# Altium footprint library Leaded Chip Carrier (Square) - Centre Index.PcbLib: 48 footprints (part 2 of 3)
Each footprint in its own frame and in the unit in brackets; x right, y up, seen from the top. Pads: shape width x height; smd on the part's side, far side on the other; paste and mask are expansions set on the pad; w line width, h text height; cw(c..) or ccw(c..) is an arc to the next point about the centre after c.
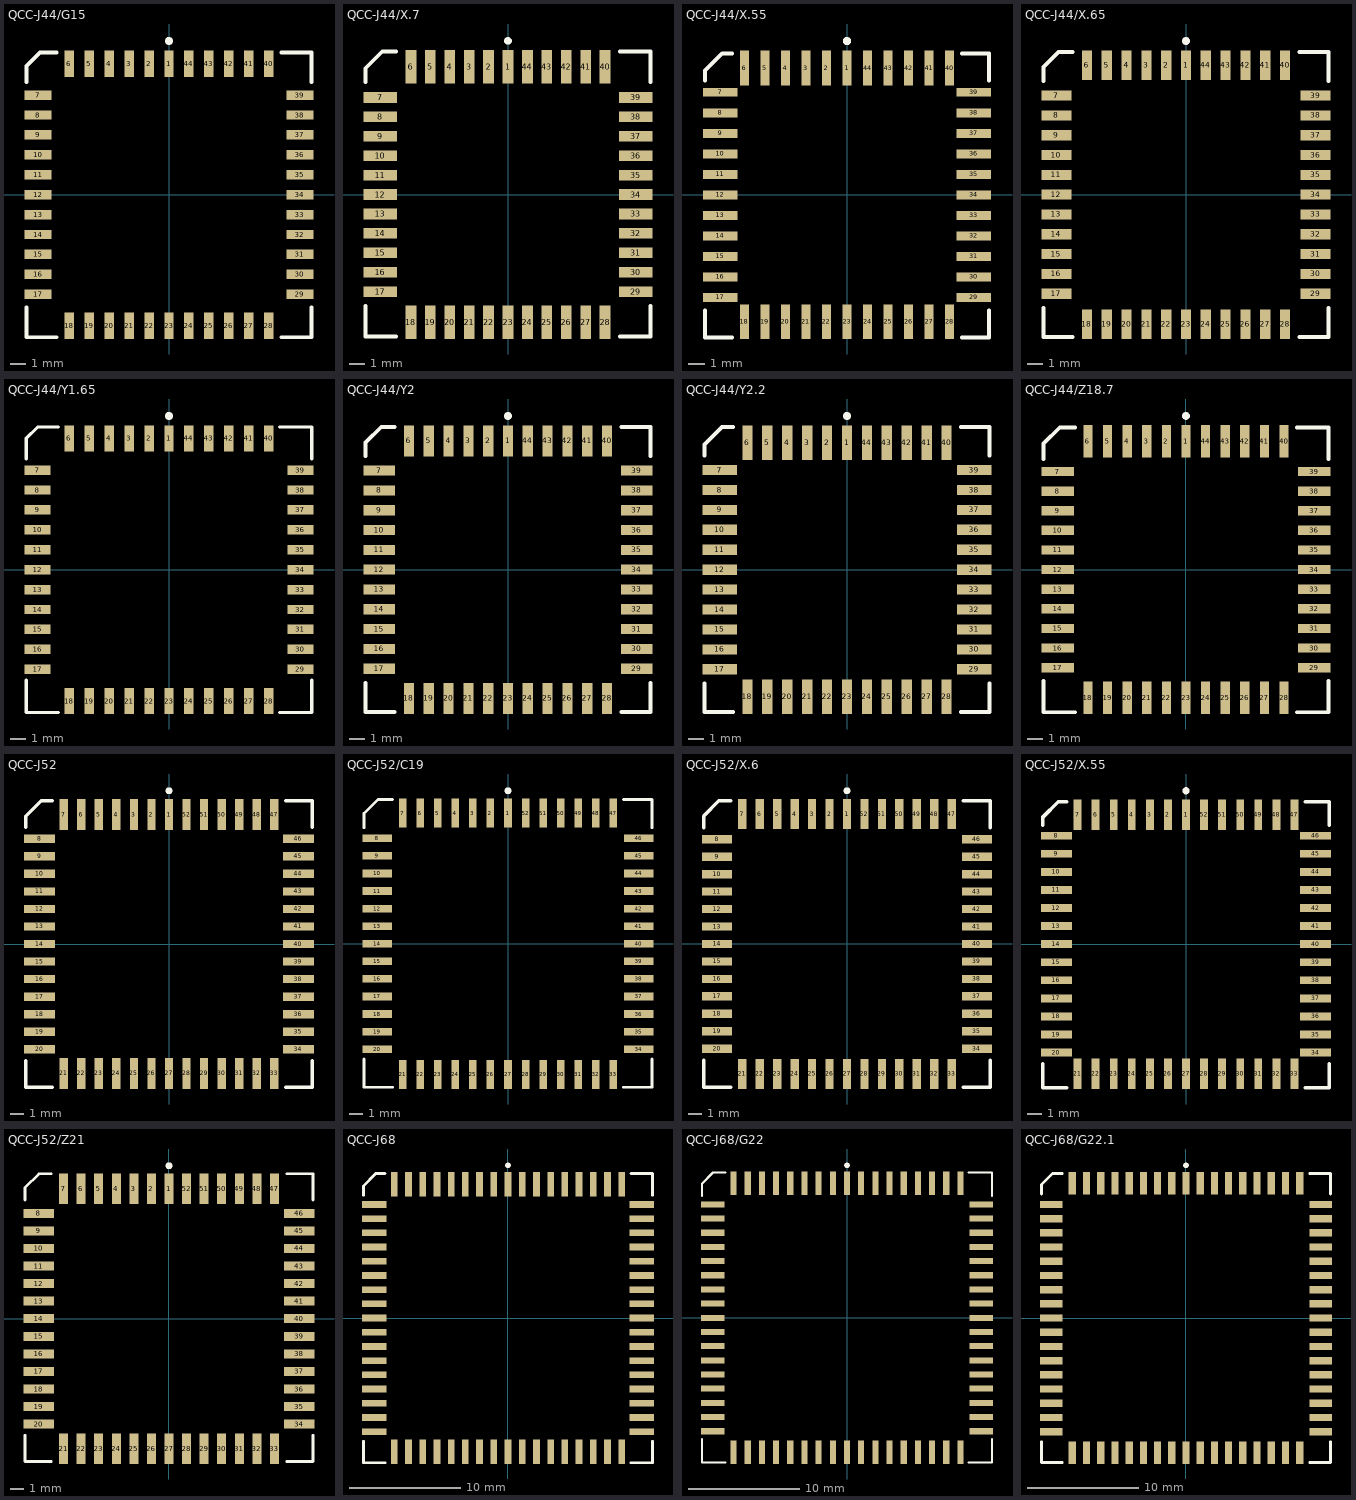
[diagram p1: the footprints below, top view; thin cyan lines are the x and y axes]

## QCC-J44/G15 [mm] "Leaded Chip Carrier; 44 Leads; Body 16.5 x 16.5 mm"
height 4.58
pads (44):
  rect 0.6x1.7 smd: 1(0,8.35) 2(-1.27,8.35) 3(-2.54,8.35) 4(-3.81,8.35) 5(-5.08,8.35) 6(-6.35,8.35) 18(-6.35,-8.35) 19(-5.08,-8.35) 20(-3.81,-8.35) 21(-2.54,-8.35) 22(-1.27,-8.35) 23(0,-8.35) 24(1.27,-8.35) 25(2.54,-8.35) 26(3.81,-8.35) 27(5.08,-8.35) 28(6.35,-8.35) 40(6.35,8.35) 41(5.08,8.35) 42(3.81,8.35) 43(2.54,8.35) 44(1.27,8.35)
  rect 1.7x0.6 smd: 7(-8.35,6.35) 8(-8.35,5.08) 9(-8.35,3.81) 10(-8.35,2.54) 11(-8.35,1.27) 12(-8.35,0) 13(-8.35,-1.27) 14(-8.35,-2.54) 15(-8.35,-3.81) 16(-8.35,-5.08) 17(-8.35,-6.35) 29(8.35,-6.35) 30(8.35,-5.08) 31(8.35,-3.81) 32(8.35,-2.54) 33(8.35,-1.27) 34(8.35,0) 35(8.35,1.27) 36(8.35,2.54) 37(8.35,3.81) 38(8.35,5.08) 39(8.35,6.35)
Top Overlay:
  circle w0.25: c0,9.8 r0.125
  lines w0.25: -9.075,-7.197 -9.075,-9.088 -7.185,-9.088 ; -9.075,7.173 -9.075,8.213 -8.225,9.062 -7.185,9.062 ; 7.185,-9.088 9.075,-9.088 9.075,-7.197 ; 7.185,9.062 9.075,9.062 9.075,7.173

## QCC-J44/X.7 [mm] "Leaded Chip Carrier; 44 Leads; Body 16.5 x 16.5 mm"
height 3.68
pads (44):
  rect 0.7x2.2 smd: 1(0,8.35) 2(-1.27,8.35) 3(-2.54,8.35) 4(-3.81,8.35) 5(-5.08,8.35) 6(-6.35,8.35) 18(-6.35,-8.35) 19(-5.08,-8.35) 20(-3.81,-8.35) 21(-2.54,-8.35) 22(-1.27,-8.35) 23(0,-8.35) 24(1.27,-8.35) 25(2.54,-8.35) 26(3.81,-8.35) 27(5.08,-8.35) 28(6.35,-8.35) 40(6.35,8.35) 41(5.08,8.35) 42(3.81,8.35) 43(2.54,8.35) 44(1.27,8.35)
  rect 2.2x0.7 smd: 7(-8.35,6.35) 8(-8.35,5.08) 9(-8.35,3.81) 10(-8.35,2.54) 11(-8.35,1.27) 12(-8.35,0) 13(-8.35,-1.27) 14(-8.35,-2.54) 15(-8.35,-3.81) 16(-8.35,-5.08) 17(-8.35,-6.35) 29(8.35,-6.35) 30(8.35,-5.08) 31(8.35,-3.81) 32(8.35,-2.54) 33(8.35,-1.27) 34(8.35,0) 35(8.35,1.27) 36(8.35,2.54) 37(8.35,3.81) 38(8.35,5.08) 39(8.35,6.35)
Top Overlay:
  circle w0.25: c0,10.05 r0.125
  lines w0.25: -9.325,-7.297 -9.325,-9.287 -7.335,-9.287 ; -9.325,7.372 -9.325,8.263 -8.225,9.363 -7.335,9.363 ; 7.335,-9.287 9.325,-9.287 9.325,-7.297 ; 7.335,9.363 9.325,9.363 9.325,7.372

## QCC-J44/X.55 [mm]
pads (44):
  rect 0.55x2.15 smd: 1(0,7.85) 2(-1.27,7.85) 3(-2.54,7.85) 4(-3.81,7.85) 5(-5.08,7.85) 6(-6.35,7.85) 18(-6.35,-7.85) 19(-5.08,-7.85) 20(-3.81,-7.85) 21(-2.54,-7.85) 22(-1.27,-7.85) 23(0,-7.85) 24(1.27,-7.85) 25(2.54,-7.85) 26(3.81,-7.85) 27(5.08,-7.85) 28(6.35,-7.85) 40(6.35,7.85) 41(5.08,7.85) 42(3.81,7.85) 43(2.54,7.85) 44(1.27,7.85)
  rect 2.15x0.55 smd: 7(-7.85,6.35) 8(-7.85,5.08) 9(-7.85,3.81) 10(-7.85,2.54) 11(-7.85,1.27) 12(-7.85,0) 13(-7.85,-1.27) 14(-7.85,-2.54) 15(-7.85,-3.81) 16(-7.85,-5.08) 17(-7.85,-6.35) 29(7.85,-6.35) 30(7.85,-5.08) 31(7.85,-3.81) 32(7.85,-2.54) 33(7.85,-1.27) 34(7.85,0) 35(7.85,1.27) 36(7.85,2.54) 37(7.85,3.81) 38(7.85,5.08) 39(7.85,6.35)
Top Overlay:
  circle w0.25: c0,9.525 r0.125
  lines w0.25: -8.8,-7.148 -8.8,-8.837 -7.11,-8.837 ; -8.8,7.073 -8.8,7.687 -7.725,8.762 -7.11,8.762 ; 7.11,-8.837 8.8,-8.837 8.8,-7.148 ; 7.11,8.762 8.8,8.762 8.8,7.073

## QCC-J44/X.65 [mm] "Leaded Chip Carrier; 44 Leads; Body 16.5 x 16.5 mm"
height 3.43
pads (44):
  rect 0.65x1.9 smd: 1(0,8.3) 2(-1.27,8.3) 3(-2.54,8.3) 4(-3.81,8.3) 5(-5.08,8.3) 6(-6.35,8.3) 18(-6.35,-8.3) 19(-5.08,-8.3) 20(-3.81,-8.3) 21(-2.54,-8.3) 22(-1.27,-8.3) 23(0,-8.3) 24(1.27,-8.3) 25(2.54,-8.3) 26(3.81,-8.3) 27(5.08,-8.3) 28(6.35,-8.3) 40(6.35,8.3) 41(5.08,8.3) 42(3.81,8.3) 43(2.54,8.3) 44(1.27,8.3)
  rect 1.9x0.65 smd: 7(-8.3,6.35) 8(-8.3,5.08) 9(-8.3,3.81) 10(-8.3,2.54) 11(-8.3,1.27) 12(-8.3,0) 13(-8.3,-1.27) 14(-8.3,-2.54) 15(-8.3,-3.81) 16(-8.3,-5.08) 17(-8.3,-6.35) 29(8.3,-6.35) 30(8.3,-5.08) 31(8.3,-3.81) 32(8.3,-2.54) 33(8.3,-1.27) 34(8.3,0) 35(8.3,1.27) 36(8.3,2.54) 37(8.3,3.81) 38(8.3,5.08) 39(8.3,6.35)
Top Overlay:
  circle w0.25: c0,9.85 r0.125
  lines w0.25: -9.125,-7.247 -9.125,-9.113 -7.26,-9.113 ; -9.125,7.272 -9.125,8.187 -8.175,9.137 -7.26,9.137 ; 7.26,-9.113 9.125,-9.113 9.125,-7.247 ; 7.26,9.137 9.125,9.137 9.125,7.272

## QCC-J44/Y1.65 [mm] "Leaded Chip Carrier; 44 Leads; Body 16.5 x 16.5 mm"
height 4.57
pads (44):
  rect 0.6x1.65 smd: 1(0,8.375) 2(-1.27,8.375) 3(-2.54,8.375) 4(-3.81,8.375) 5(-5.08,8.375) 6(-6.35,8.375) 18(-6.35,-8.375) 19(-5.08,-8.375) 20(-3.81,-8.375) 21(-2.54,-8.375) 22(-1.27,-8.375) 23(0,-8.375) 24(1.27,-8.375) 25(2.54,-8.375) 26(3.81,-8.375) 27(5.08,-8.375) 28(6.35,-8.375) 40(6.35,8.375) 41(5.08,8.375) 42(3.81,8.375) 43(2.54,8.375) 44(1.27,8.375)
  rect 1.65x0.6 smd: 7(-8.375,6.35) 8(-8.375,5.08) 9(-8.375,3.81) 10(-8.375,2.54) 11(-8.375,1.27) 12(-8.375,0) 13(-8.375,-1.27) 14(-8.375,-2.54) 15(-8.375,-3.81) 16(-8.375,-5.08) 17(-8.375,-6.35) 29(8.375,-6.35) 30(8.375,-5.08) 31(8.375,-3.81) 32(8.375,-2.54) 33(8.375,-1.27) 34(8.375,0) 35(8.375,1.27) 36(8.375,2.54) 37(8.375,3.81) 38(8.375,5.08) 39(8.375,6.35)
Top Overlay:
  circle w0.25: c0,9.8 r0.125
  lines w0.2: -9.1,-7.05 -9.1,-9.1 -7.05,-9.1 ; -9.1,7.05 -9.1,8.375 -8.375,9.1 -7.05,9.1 ; 7.05,-9.1 9.1,-9.1 9.1,-7.05 ; 7.05,9.1 9.1,9.1 9.1,7.05

## QCC-J44/Y2 [mm] "Leaded Chip Carrier; 44 Leads; Body 16.3 x 16.3 mm"
height 3.17
pads (44):
  rect 0.65x2 smd: 1(0,8.25) 2(-1.27,8.25) 3(-2.54,8.25) 4(-3.81,8.25) 5(-5.08,8.25) 6(-6.35,8.25) 18(-6.35,-8.25) 19(-5.08,-8.25) 20(-3.81,-8.25) 21(-2.54,-8.25) 22(-1.27,-8.25) 23(0,-8.25) 24(1.27,-8.25) 25(2.54,-8.25) 26(3.81,-8.25) 27(5.08,-8.25) 28(6.35,-8.25) 40(6.35,8.25) 41(5.08,8.25) 42(3.81,8.25) 43(2.54,8.25) 44(1.27,8.25)
  rect 2x0.65 smd: 7(-8.25,6.35) 8(-8.25,5.08) 9(-8.25,3.81) 10(-8.25,2.54) 11(-8.25,1.27) 12(-8.25,0) 13(-8.25,-1.27) 14(-8.25,-2.54) 15(-8.25,-3.81) 16(-8.25,-5.08) 17(-8.25,-6.35) 29(8.25,-6.35) 30(8.25,-5.08) 31(8.25,-3.81) 32(8.25,-2.54) 33(8.25,-1.27) 34(8.25,0) 35(8.25,1.27) 36(8.25,2.54) 37(8.25,3.81) 38(8.25,5.08) 39(8.25,6.35)
Top Overlay:
  circle w0.25: c0,9.85 r0.125
  lines w0.25: -9.125,-7.248 -9.125,-9.113 -7.26,-9.113 ; -9.125,7.273 -9.125,8.137 -8.125,9.137 -7.26,9.137 ; 7.26,-9.113 9.125,-9.113 9.125,-7.248 ; 7.26,9.137 9.125,9.137 9.125,7.273

## QCC-J44/Y2.2 [mm] "44-Pin J-Leaded Cerquad Chip Carrier"
height 4.58
pads (44):
  rect 0.65x2.2 smd: 1(0,8.1) 2(-1.27,8.1) 3(-2.54,8.1) 4(-3.81,8.1) 5(-5.08,8.1) 6(-6.35,8.1) 18(-6.35,-8.1) 19(-5.08,-8.1) 20(-3.81,-8.1) 21(-2.54,-8.1) 22(-1.27,-8.1) 23(0,-8.1) 24(1.27,-8.1) 25(2.54,-8.1) 26(3.81,-8.1) 27(5.08,-8.1) 28(6.35,-8.1) 40(6.35,8.1) 41(5.08,8.1) 42(3.81,8.1) 43(2.54,8.1) 44(1.27,8.1)
  rect 2.2x0.65 smd: 7(-8.1,6.35) 8(-8.1,5.08) 9(-8.1,3.81) 10(-8.1,2.54) 11(-8.1,1.27) 12(-8.1,0) 13(-8.1,-1.27) 14(-8.1,-2.54) 15(-8.1,-3.81) 16(-8.1,-5.08) 17(-8.1,-6.35) 29(8.1,-6.35) 30(8.1,-5.08) 31(8.1,-3.81) 32(8.1,-2.54) 33(8.1,-1.27) 34(8.1,0) 35(8.1,1.27) 36(8.1,2.54) 37(8.1,3.81) 38(8.1,5.08) 39(8.1,6.35)
Top Overlay:
  circle w0.25: c0,9.8 r0.125
  lines w0.25: -9.075,-7.247 -9.075,-9.063 -7.26,-9.063 ; -9.075,7.272 -9.075,7.987 -7.975,9.087 -7.26,9.087 ; 7.26,-9.063 9.075,-9.063 9.075,-7.247 ; 7.26,9.087 9.075,9.087 9.075,7.272

## QCC-J44/Z18.7 [mm] "Leaded Chip Carrier; 44 Leads; Body 16.5 x 16.5 mm"
height 3.56
pads (44):
  rect 0.6x2.1 smd: 1(0,8.3) 2(-1.27,8.3) 3(-2.54,8.3) 4(-3.81,8.3) 5(-5.08,8.3) 6(-6.35,8.3) 18(-6.35,-8.3) 19(-5.08,-8.3) 20(-3.81,-8.3) 21(-2.54,-8.3) 22(-1.27,-8.3) 23(0,-8.3) 24(1.27,-8.3) 25(2.54,-8.3) 26(3.81,-8.3) 27(5.08,-8.3) 28(6.35,-8.3) 40(6.35,8.3) 41(5.08,8.3) 42(3.81,8.3) 43(2.54,8.3) 44(1.27,8.3)
  rect 2.1x0.6 smd: 7(-8.3,6.35) 8(-8.3,5.08) 9(-8.3,3.81) 10(-8.3,2.54) 11(-8.3,1.27) 12(-8.3,0) 13(-8.3,-1.27) 14(-8.3,-2.54) 15(-8.3,-3.81) 16(-8.3,-5.08) 17(-8.3,-6.35) 29(8.3,-6.35) 30(8.3,-5.08) 31(8.3,-3.81) 32(8.3,-2.54) 33(8.3,-1.27) 34(8.3,0) 35(8.3,1.27) 36(8.3,2.54) 37(8.3,3.81) 38(8.3,5.08) 39(8.3,6.35)
Top Overlay:
  circle w0.25: c0,9.95 r0.125
  lines w0.25: -9.225,-7.197 -9.225,-9.237 -7.185,-9.237 ; -9.225,7.173 -9.225,8.163 -8.175,9.213 -7.185,9.213 ; 7.185,-9.237 9.225,-9.237 9.225,-7.197 ; 7.185,9.213 9.225,9.213 9.225,7.173

## QCC-J52 [mm] "Leaded Chip Carrier; 52 Leads; Body 19 x 19 mm"
height 4.57
pads (52):
  rect 0.6x2.25 smd: 1(0,9.375) 2(-1.27,9.375) 3(-2.54,9.375) 4(-3.81,9.375) 5(-5.08,9.375) 6(-6.35,9.375) 7(-7.62,9.375) 21(-7.62,-9.375) 22(-6.35,-9.375) 23(-5.08,-9.375) 24(-3.81,-9.375) 25(-2.54,-9.375) 26(-1.27,-9.375) 27(0,-9.375) 28(1.27,-9.375) 29(2.54,-9.375) 30(3.81,-9.375) 31(5.08,-9.375) 32(6.35,-9.375) 33(7.62,-9.375) 47(7.62,9.375) 48(6.35,9.375) 49(5.08,9.375) 50(3.81,9.375) 51(2.54,9.375) 52(1.27,9.375)
  rect 2.25x0.6 smd: 8(-9.375,7.62) 9(-9.375,6.35) 10(-9.375,5.08) 11(-9.375,3.81) 12(-9.375,2.54) 13(-9.375,1.27) 14(-9.375,0) 15(-9.375,-1.27) 16(-9.375,-2.54) 17(-9.375,-3.81) 18(-9.375,-5.08) 19(-9.375,-6.35) 20(-9.375,-7.62) 34(9.375,-7.62) 35(9.375,-6.35) 36(9.375,-5.08) 37(9.375,-3.81) 38(9.375,-2.54) 39(9.375,-1.27) 40(9.375,0) 41(9.375,1.27) 42(9.375,2.54) 43(9.375,3.81) 44(9.375,5.08) 45(9.375,6.35) 46(9.375,7.62)
Top Overlay:
  circle w0.25: c0,11.1 r0.125
  lines w0.25: -10.375,-8.468 -10.375,-10.387 -8.455,-10.387 ; -10.375,8.442 -10.375,9.238 -9.25,10.363 -8.455,10.363 ; 8.455,-10.387 10.375,-10.387 10.375,-8.468 ; 8.455,10.363 10.375,10.363 10.375,8.442

## QCC-J52/C19 [mm] "Leaded Chip Carrier, Plastic; 52 Leads; Body 19 x 19 mm"
height 4.57
pads (52):
  rect 0.55x2.1 smd: 1(0,9.45) 2(-1.27,9.45) 3(-2.54,9.45) 4(-3.81,9.45) 5(-5.08,9.45) 6(-6.35,9.45) 7(-7.62,9.45) 21(-7.62,-9.45) 22(-6.35,-9.45) 23(-5.08,-9.45) 24(-3.81,-9.45) 25(-2.54,-9.45) 26(-1.27,-9.45) 27(0,-9.45) 28(1.27,-9.45) 29(2.54,-9.45) 30(3.81,-9.45) 31(5.08,-9.45) 32(6.35,-9.45) 33(7.62,-9.45) 47(7.62,9.45) 48(6.35,9.45) 49(5.08,9.45) 50(3.81,9.45) 51(2.54,9.45) 52(1.27,9.45)
  rect 2.1x0.55 smd: 8(-9.45,7.62) 9(-9.45,6.35) 10(-9.45,5.08) 11(-9.45,3.81) 12(-9.45,2.54) 13(-9.45,1.27) 14(-9.45,0) 15(-9.45,-1.27) 16(-9.45,-2.54) 17(-9.45,-3.81) 18(-9.45,-5.08) 19(-9.45,-6.35) 20(-9.45,-7.62) 34(9.45,-7.62) 35(9.45,-6.35) 36(9.45,-5.08) 37(9.45,-3.81) 38(9.45,-2.54) 39(9.45,-1.27) 40(9.45,0) 41(9.45,1.27) 42(9.45,2.54) 43(9.45,3.81) 44(9.45,5.08) 45(9.45,6.35) 46(9.45,7.62)
Top Overlay:
  circle w0.25: c0,11.06 r0.125
  lines w0.2: -10.4,-8.33 -10.4,-10.375 -8.355,-10.375 ; -10.4,8.38 -10.4,9.425 -9.4,10.425 -8.355,10.425 ; 8.355,-10.375 10.4,-10.375 10.4,-8.33 ; 8.355,10.425 10.4,10.425 10.4,8.38

## QCC-J52/X.6 [mm] "Leaded Chip Carrier; 52 Leads; Body 19 x 19 mm"
height 4.7
pads (52):
  rect 0.6x2.2 smd: 1(0,9.45) 2(-1.27,9.45) 3(-2.54,9.45) 4(-3.81,9.45) 5(-5.08,9.45) 6(-6.35,9.45) 7(-7.62,9.45) 21(-7.62,-9.45) 22(-6.35,-9.45) 23(-5.08,-9.45) 24(-3.81,-9.45) 25(-2.54,-9.45) 26(-1.27,-9.45) 27(0,-9.45) 28(1.27,-9.45) 29(2.54,-9.45) 30(3.81,-9.45) 31(5.08,-9.45) 32(6.35,-9.45) 33(7.62,-9.45) 47(7.62,9.45) 48(6.35,9.45) 49(5.08,9.45) 50(3.81,9.45) 51(2.54,9.45) 52(1.27,9.45)
  rect 2.2x0.6 smd: 8(-9.45,7.62) 9(-9.45,6.35) 10(-9.45,5.08) 11(-9.45,3.81) 12(-9.45,2.54) 13(-9.45,1.27) 14(-9.45,0) 15(-9.45,-1.27) 16(-9.45,-2.54) 17(-9.45,-3.81) 18(-9.45,-5.08) 19(-9.45,-6.35) 20(-9.45,-7.62) 34(9.45,-7.62) 35(9.45,-6.35) 36(9.45,-5.08) 37(9.45,-3.81) 38(9.45,-2.54) 39(9.45,-1.27) 40(9.45,0) 41(9.45,1.27) 42(9.45,2.54) 43(9.45,3.81) 44(9.45,5.08) 45(9.45,6.35) 46(9.45,7.62)
Top Overlay:
  circle w0.25: c0,11.15 r0.125
  lines w0.25: -10.425,-8.467 -10.425,-10.437 -8.455,-10.437 ; -10.425,8.443 -10.425,9.313 -9.325,10.413 -8.455,10.413 ; 8.455,-10.437 10.425,-10.437 10.425,-8.467 ; 8.455,10.413 10.425,10.413 10.425,8.443

## QCC-J52/X.55 [mm]
pads (52):
  rect 0.55x2.15 smd: 1(0,9.1) 2(-1.27,9.1) 3(-2.54,9.1) 4(-3.81,9.1) 5(-5.08,9.1) 6(-6.35,9.1) 7(-7.62,9.1) 21(-7.62,-9.1) 22(-6.35,-9.1) 23(-5.08,-9.1) 24(-3.81,-9.1) 25(-2.54,-9.1) 26(-1.27,-9.1) 27(0,-9.1) 28(1.27,-9.1) 29(2.54,-9.1) 30(3.81,-9.1) 31(5.08,-9.1) 32(6.35,-9.1) 33(7.62,-9.1) 47(7.62,9.1) 48(6.35,9.1) 49(5.08,9.1) 50(3.81,9.1) 51(2.54,9.1) 52(1.27,9.1)
  rect 2.15x0.55 smd: 8(-9.1,7.62) 9(-9.1,6.35) 10(-9.1,5.08) 11(-9.1,3.81) 12(-9.1,2.54) 13(-9.1,1.27) 14(-9.1,0) 15(-9.1,-1.27) 16(-9.1,-2.54) 17(-9.1,-3.81) 18(-9.1,-5.08) 19(-9.1,-6.35) 20(-9.1,-7.62) 34(9.1,-7.62) 35(9.1,-6.35) 36(9.1,-5.08) 37(9.1,-3.81) 38(9.1,-2.54) 39(9.1,-1.27) 40(9.1,0) 41(9.1,1.27) 42(9.1,2.54) 43(9.1,3.81) 44(9.1,5.08) 45(9.1,6.35) 46(9.1,7.62)
Top Overlay:
  circle w0.25: c0,10.775 r0.125
  lines w0.25: -10.05,-8.417 -10.05,-10.087 -8.38,-10.087 ; -10.05,8.342 -10.05,8.937 -8.975,10.012 -8.38,10.012 ; 8.38,-10.087 10.05,-10.087 10.05,-8.417 ; 8.38,10.012 10.05,10.012 10.05,8.342

## QCC-J52/Z21 [mm] "Leaded Chip Carrier; 52 Leads; Body 19 x 19 mm"
height 5.08
pads (52):
  rect 0.65x2.2 smd: 1(0,9.4) 2(-1.27,9.4) 3(-2.54,9.4) 4(-3.81,9.4) 5(-5.08,9.4) 6(-6.35,9.4) 7(-7.62,9.4) 21(-7.62,-9.4) 22(-6.35,-9.4) 23(-5.08,-9.4) 24(-3.81,-9.4) 25(-2.54,-9.4) 26(-1.27,-9.4) 27(0,-9.4) 28(1.27,-9.4) 29(2.54,-9.4) 30(3.81,-9.4) 31(5.08,-9.4) 32(6.35,-9.4) 33(7.62,-9.4) 47(7.62,9.4) 48(6.35,9.4) 49(5.08,9.4) 50(3.81,9.4) 51(2.54,9.4) 52(1.27,9.4)
  rect 2.2x0.65 smd: 8(-9.4,7.62) 9(-9.4,6.35) 10(-9.4,5.08) 11(-9.4,3.81) 12(-9.4,2.54) 13(-9.4,1.27) 14(-9.4,0) 15(-9.4,-1.27) 16(-9.4,-2.54) 17(-9.4,-3.81) 18(-9.4,-5.08) 19(-9.4,-6.35) 20(-9.4,-7.62) 34(9.4,-7.62) 35(9.4,-6.35) 36(9.4,-5.08) 37(9.4,-3.81) 38(9.4,-2.54) 39(9.4,-1.27) 40(9.4,0) 41(9.4,1.27) 42(9.4,2.54) 43(9.4,3.81) 44(9.4,5.08) 45(9.4,6.35) 46(9.4,7.62)
Top Overlay:
  circle w0.25: c0,11.06 r0.125
  lines w0.2: -10.4,-8.43 -10.4,-10.325 -8.505,-10.325 ; -10.4,8.58 -10.4,9.475 -9.4,10.475 -8.505,10.475 ; 8.505,-10.325 10.4,-10.325 10.4,-8.43 ; 8.505,10.475 10.4,10.475 10.4,8.58

## QCC-J68 [mm] "68-Pin Plastic Leaded Chip Carrier (PLCC)"
height 4.58
pads (68):
  rect 0.6x2.2 smd: 1(0,11.95) 2(-1.27,11.95) 3(-2.54,11.95) 4(-3.81,11.95) 5(-5.08,11.95) 6(-6.35,11.95) 7(-7.62,11.95) 8(-8.89,11.95) 9(-10.16,11.95) 27(-10.16,-11.95) 28(-8.89,-11.95) 29(-7.62,-11.95) 30(-6.35,-11.95) 31(-5.08,-11.95) 32(-3.81,-11.95) 33(-2.54,-11.95) 34(-1.27,-11.95) 35(0,-11.95) 36(1.27,-11.95) 37(2.54,-11.95) 38(3.81,-11.95) 39(5.08,-11.95) 40(6.35,-11.95) 41(7.62,-11.95) 42(8.89,-11.95) 43(10.16,-11.95) 61(10.16,11.95) 62(8.89,11.95) 63(7.62,11.95) 64(6.35,11.95) 65(5.08,11.95) 66(3.81,11.95) 67(2.54,11.95) 68(1.27,11.95)
  rect 2.2x0.6 smd: 10(-11.95,10.16) 11(-11.95,8.89) 12(-11.95,7.62) 13(-11.95,6.35) 14(-11.95,5.08) 15(-11.95,3.81) 16(-11.95,2.54) 17(-11.95,1.27) 18(-11.95,0) 19(-11.95,-1.27) 20(-11.95,-2.54) 21(-11.95,-3.81) 22(-11.95,-5.08) 23(-11.95,-6.35) 24(-11.95,-7.62) 25(-11.95,-8.89) 26(-11.95,-10.16) 44(11.95,-10.16) 45(11.95,-8.89) 46(11.95,-7.62) 47(11.95,-6.35) 48(11.95,-5.08) 49(11.95,-3.81) 50(11.95,-2.54) 51(11.95,-1.27) 52(11.95,0) 53(11.95,1.27) 54(11.95,2.54) 55(11.95,3.81) 56(11.95,5.08) 57(11.95,6.35) 58(11.95,7.62) 59(11.95,8.89) 60(11.95,10.16)
Top Overlay:
  circle w0.25: c0,13.65 r0.125
  lines w0.25: -12.925,-11.008 -12.925,-12.938 -10.995,-12.938 ; -12.925,10.982 -12.925,11.813 -11.825,12.913 -10.995,12.913 ; 10.995,-12.938 12.925,-12.938 12.925,-11.008 ; 10.995,12.913 12.925,12.913 12.925,10.982

## QCC-J68/G22 [mm] "Leaded Chip Carrier; 68 Leads; Body 24.2 x 24.2 mm"
height 4.57
pads (68):
  rect 0.55x2.1 smd: 1(0,12.05) 2(-1.27,12.05) 3(-2.54,12.05) 4(-3.81,12.05) 5(-5.08,12.05) 6(-6.35,12.05) 7(-7.62,12.05) 8(-8.89,12.05) 9(-10.16,12.05) 27(-10.16,-12.05) 28(-8.89,-12.05) 29(-7.62,-12.05) 30(-6.35,-12.05) 31(-5.08,-12.05) 32(-3.81,-12.05) 33(-2.54,-12.05) 34(-1.27,-12.05) 35(0,-12.05) 36(1.27,-12.05) 37(2.54,-12.05) 38(3.81,-12.05) 39(5.08,-12.05) 40(6.35,-12.05) 41(7.62,-12.05) 42(8.89,-12.05) 43(10.16,-12.05) 61(10.16,12.05) 62(8.89,12.05) 63(7.62,12.05) 64(6.35,12.05) 65(5.08,12.05) 66(3.81,12.05) 67(2.54,12.05) 68(1.27,12.05)
  rect 2.1x0.55 smd: 10(-12.05,10.16) 11(-12.05,8.89) 12(-12.05,7.62) 13(-12.05,6.35) 14(-12.05,5.08) 15(-12.05,3.81) 16(-12.05,2.54) 17(-12.05,1.27) 18(-12.05,0) 19(-12.05,-1.27) 20(-12.05,-2.54) 21(-12.05,-3.81) 22(-12.05,-5.08) 23(-12.05,-6.35) 24(-12.05,-7.62) 25(-12.05,-8.89) 26(-12.05,-10.16) 44(12.05,-10.16) 45(12.05,-8.89) 46(12.05,-7.62) 47(12.05,-6.35) 48(12.05,-5.08) 49(12.05,-3.81) 50(12.05,-2.54) 51(12.05,-1.27) 52(12.05,0) 53(12.05,1.27) 54(12.05,2.54) 55(12.05,3.81) 56(12.05,5.08) 57(12.05,6.35) 58(12.05,7.62) 59(12.05,8.89) 60(12.05,10.16)
Top Overlay:
  circle w0.25: c0,13.66 r0.125
  lines w0.2: -13,-10.87 -13,-12.975 -10.895,-12.975 ; -13,10.92 -13,12.025 -12,13.025 -10.895,13.025 ; 10.895,-12.975 13,-12.975 13,-10.87 ; 10.895,13.025 13,13.025 13,10.92

## QCC-J68/G22.1 [mm] "Leaded Chip Carrier; 68 Leads; Body 24 x 24 mm"
height 3.18
pads (68):
  rect 0.65x2 smd: 1(0,12.05) 2(-1.27,12.05) 3(-2.54,12.05) 4(-3.81,12.05) 5(-5.08,12.05) 6(-6.35,12.05) 7(-7.62,12.05) 8(-8.89,12.05) 9(-10.16,12.05) 27(-10.16,-12.05) 28(-8.89,-12.05) 29(-7.62,-12.05) 30(-6.35,-12.05) 31(-5.08,-12.05) 32(-3.81,-12.05) 33(-2.54,-12.05) 34(-1.27,-12.05) 35(0,-12.05) 36(1.27,-12.05) 37(2.54,-12.05) 38(3.81,-12.05) 39(5.08,-12.05) 40(6.35,-12.05) 41(7.62,-12.05) 42(8.89,-12.05) 43(10.16,-12.05) 61(10.16,12.05) 62(8.89,12.05) 63(7.62,12.05) 64(6.35,12.05) 65(5.08,12.05) 66(3.81,12.05) 67(2.54,12.05) 68(1.27,12.05)
  rect 2x0.65 smd: 10(-12.05,10.16) 11(-12.05,8.89) 12(-12.05,7.62) 13(-12.05,6.35) 14(-12.05,5.08) 15(-12.05,3.81) 16(-12.05,2.54) 17(-12.05,1.27) 18(-12.05,0) 19(-12.05,-1.27) 20(-12.05,-2.54) 21(-12.05,-3.81) 22(-12.05,-5.08) 23(-12.05,-6.35) 24(-12.05,-7.62) 25(-12.05,-8.89) 26(-12.05,-10.16) 44(12.05,-10.16) 45(12.05,-8.89) 46(12.05,-7.62) 47(12.05,-6.35) 48(12.05,-5.08) 49(12.05,-3.81) 50(12.05,-2.54) 51(12.05,-1.27) 52(12.05,0) 53(12.05,1.27) 54(12.05,2.54) 55(12.05,3.81) 56(12.05,5.08) 57(12.05,6.35) 58(12.05,7.62) 59(12.05,8.89) 60(12.05,10.16)
Top Overlay:
  circle w0.25: c0,13.65 r0.125
  lines w0.25: -12.925,-11.057 -12.925,-12.913 -11.07,-12.913 ; -12.925,11.082 -12.925,11.938 -11.925,12.938 -11.07,12.938 ; 11.07,-12.913 12.925,-12.913 12.925,-11.057 ; 11.07,12.938 12.925,12.938 12.925,11.082